# Altium footprint library test-in.PcbLib: 2 footprints
Each footprint in its own frame and in the unit in brackets; x right, y up, seen from the top. Pads: shape width x height; smd on the part's side, far side on the other; paste and mask are expansions set on the pad; w line width, h text height; cw(c..) or ccw(c..) is an arc to the next point about the centre after c.
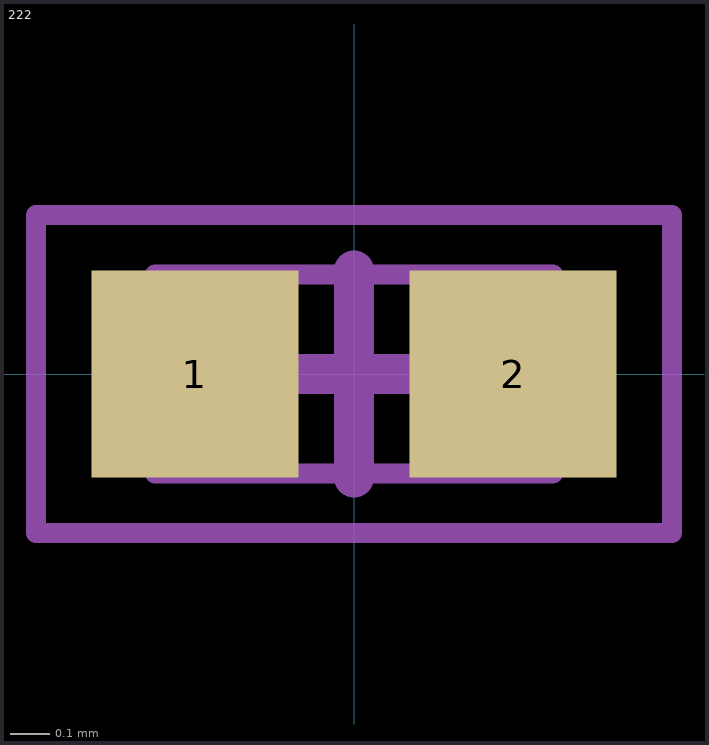
[diagram p0: the footprints below, top view; thin cyan lines are the x and y axes]

## 222 [mm]
pads (2):
  rect 0.52x0.52 smd: 1(-0.4,0) 2(0.4,0)
Top Component Center:
  lines w0.1: -0.26,0 0.26,0 ; 0,-0.26 0,0.26
Top Courtyard:
  lines w0.05: -0.8,-0.4 0.8,-0.4 0.8,0.4 -0.8,0.4 -0.8,-0.4
Top Assembly:
  lines w0.05: -0.5,-0.25 -0.5,0.25 0.5,0.25 0.5,-0.25 -0.5,-0.25
  text ".Designator" at 0,0.189 h1
3D body "CAP 0402.STEP": height 0.52, standoff 0, extent -0.5,-0.262 0.5,0.262

## PCBComponent_1 [mm]